# EAGLE library part 171010502 (library Power modules)
MagI3C Power Module VDMM – Variable Step Down MicroModule Manufacturer's datasheet <https://katalog.we-online.com/pm/datasheet/171010502.pdf>
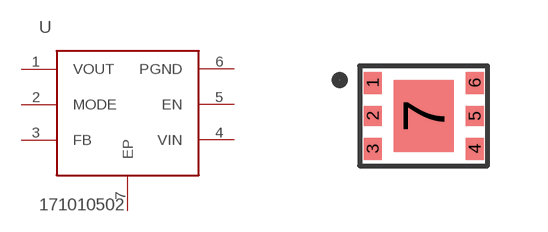
[diagram p2: symbol with the pads of 171010502; footprint 171010502]

Designator prefix U

## 171010502 (CREATED_BY: PCBLayout.com; MANUFACTURER: WURTH ELEKTRONIK; MPN: 171010502; PACKAGE: LGA-6EP)  [171010502]
1  VOUT  pwr
2  MODE  in
3  FB  in
4  VIN  pwr
5  EN  in
6  PGND  pwr
7  EP  pwr

## Footprint 171010502 (pad centres in mm)
smd 0.45 x 0.55: 1 -1.275,0.825; 3 -1.275,-0.825; 4 1.275,-0.825; 6 1.275,0.825
smd 0.45 x 0.5: 2 -1.275,0; 5 1.275,0
smd 1.5 x 1.8: 7 0,0